# EAGLE library part LT1012S8PBF (library custom_dzmitry)
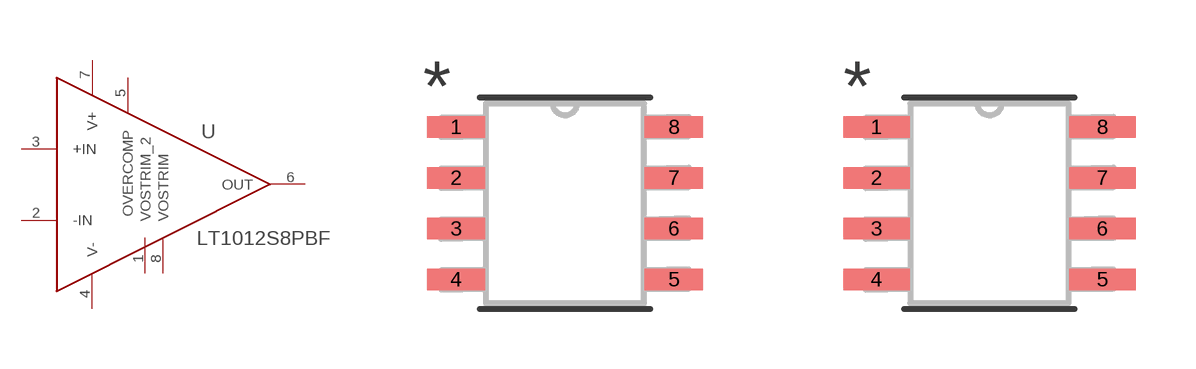
[diagram p7: symbol with the pads of SO-8_S_LIT; footprints SO-8_S_LIT, SO-8_S_LIT-M]

Designator prefix U

## LT1012S8PBF (BUILT_BY: EMA_UL_Team; MANUFACTURER_PART_NUMBER: LT1012S8#PBF; SOURCELIBRARY: LinearTech_2016-05-13_9; VENDOR: Linear Technology)  [SO-8_S_LIT]
1  VOSTRIM_2  pas
2  -IN  in
3  +IN  in
4  V-  pwr
5  OVERCOMP  pas
6  OUT  out
7  V+  pwr
8  VOSTRIM  pas

## LT1012S8PBFSO-8_S_LIT-M (BUILT_BY: EMA_UL_Team; MANUFACTURER_PART_NUMBER: LT1012S8#PBF; SOURCELIBRARY: LinearTech_2016-05-13_9; VENDOR: Linear Technology)  [SO-8_S_LIT-M]
Pads as for SO-8_S_LIT

## LT1012S8PBFSO-8_S_LIT-L (BUILT_BY: EMA_UL_Team; MANUFACTURER_PART_NUMBER: LT1012S8#PBF; SOURCELIBRARY: LinearTech_2016-05-13_9; VENDOR: Linear Technology)  [SO-8_S_LIT-L]
Pads as for SO-8_S_LIT

## Footprint SO-8_S_LIT (pad centres in mm)
smd 1.46 x 0.533: 1 -2.724,1.905; 2 -2.724,0.635; 3 -2.724,-0.635; 4 -2.724,-1.905; 5 2.724,-1.905; 6 2.724,-0.635; 7 2.724,0.635; 8 2.724,1.905

## Footprint SO-8_S_LIT-M (pad centres in mm)
smd 1.664 x 0.533: 1 -2.826,1.905; 2 -2.826,0.635; 3 -2.826,-0.635; 4 -2.826,-1.905; 5 2.826,-1.905; 6 2.826,-0.635; 7 2.826,0.635; 8 2.826,1.905

## Footprint SO-8_S_LIT-L (pad centres in mm)
smd 1.257 x 0.483: 1 -2.623,1.905; 2 -2.623,0.635; 3 -2.623,-0.635; 4 -2.623,-1.905; 5 2.623,-1.905; 6 2.623,-0.635; 7 2.623,0.635; 8 2.623,1.905